# Altium footprint library SMD Resistors 0805.PcbLib: 63 footprints (part 1 of 4)
Each footprint in its own frame and in the unit in brackets; x right, y up, seen from the top. Pads: shape width x height; smd on the part's side, far side on the other; paste and mask are expansions set on the pad; w line width, h text height; cw(c..) or ccw(c..) is an arc to the next point about the centre after c.
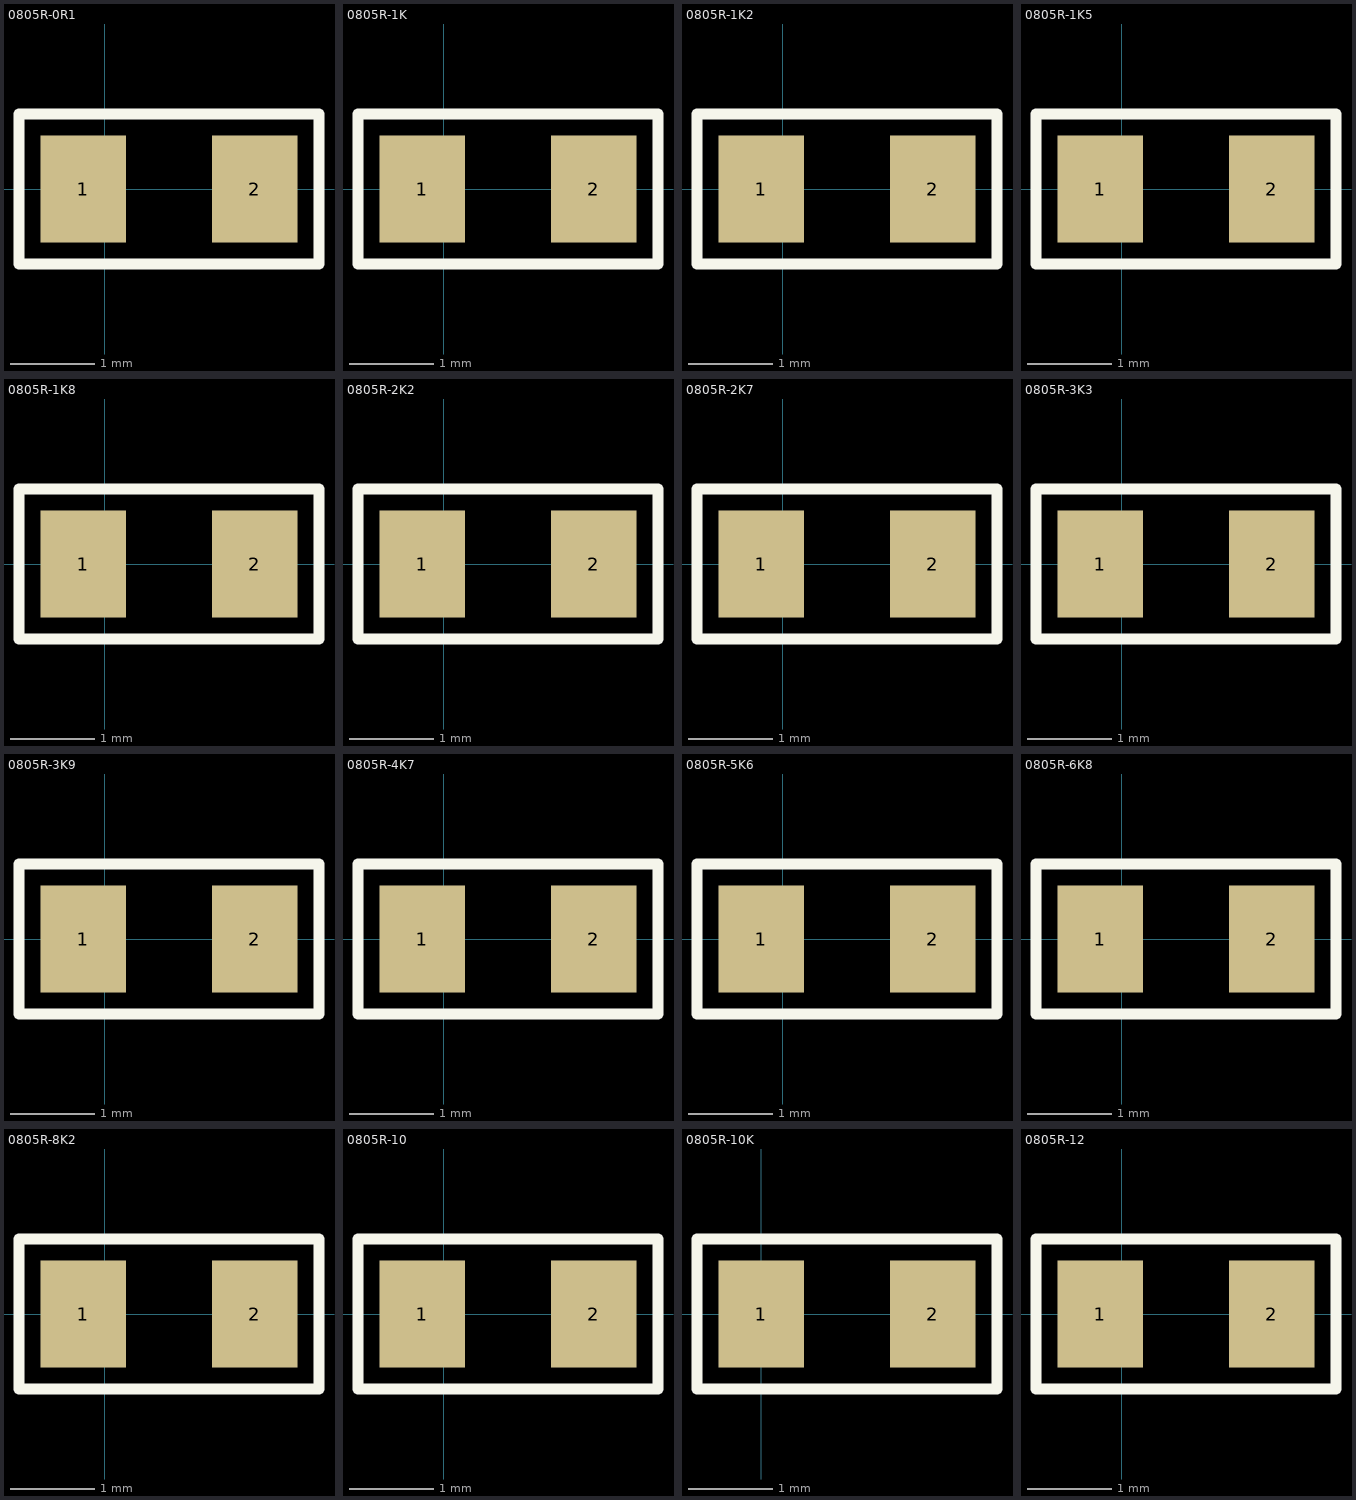
[diagram p0: the footprints below, top view; thin cyan lines are the x and y axes]

## 0805R-0R1 [mil] "RESISTOR 0805"
pads (2):
  rect 40x50 smd: 1(-10,0) 2(70,0)
Top Overlay:
  lines w5: -40,-35 100,-35 100,35 -40,35 -40,-35
3D body: height 27, standoff 26, extent 34.5,-7 42,8
3D body: height 27, standoff 26, extent 14.5,-7 22,8
3D body: height 26, standoff 0, extent 54,-25 70,25
3D body: height 26, standoff 25, extent 5,-22 54,22
3D body: height 26, standoff 0, extent -11,-25 5,25
3D body: height 25, standoff 0, extent -10,-24 69,24
3D body: height 27, standoff 26, extent 24.5,-7 32,8

## 0805R-1K [mil] "RESISTOR 0805"
pads (2):
  rect 40x50 smd: 1(-10,0) 2(70,0)
Top Overlay:
  lines w5: -40,-35 100,-35 100,35 -40,35 -40,-35
3D body: height 27, standoff 26, extent 15.5,-7.5 23,7.5
3D body: height 27, standoff 26, extent 25.5,-7.5 33,7.5
3D body: height 26, standoff 0, extent 54,-25 70,25
3D body: height 26, standoff 25, extent 5,-22 54,22
3D body: height 26, standoff 0, extent -11,-25 5,25
3D body: height 25, standoff 0, extent -10,-24 69,24
3D body: height 27, standoff 26, extent 35.5,-7.5 43,7.5

## 0805R-1K2 [mil] "RESISTOR 0805"
pads (2):
  rect 40x50 smd: 1(-10,0) 2(70,0)
Top Overlay:
  lines w5: -40,-35 100,-35 100,35 -40,35 -40,-35
3D body: height 27, standoff 26, extent 25.5,-7.5 33,7.5
3D body: height 26, standoff 0, extent 54,-25 70,25
3D body: height 26, standoff 25, extent 5,-22 54,22
3D body: height 26, standoff 0, extent -11,-25 5,25
3D body: height 25, standoff 0, extent -10,-24 69,24
3D body: height 27, standoff 26, extent 15.5,-7.5 23,7.5
3D body: height 27, standoff 26, extent 35.5,-7.5 43,7.5

## 0805R-1K5 [mil] "RESISTOR 0805"
pads (2):
  rect 40x50 smd: 1(-10,0) 2(70,0)
Top Overlay:
  lines w5: -40,-35 100,-35 100,35 -40,35 -40,-35
3D body: height 27, standoff 26, extent 15.5,-7.5 23,7.5
3D body: height 27, standoff 26, extent 25,-7.5 32.5,7.5
3D body: height 26, standoff 0, extent 54,-25 70,25
3D body: height 26, standoff 25, extent 5,-22 54,22
3D body: height 26, standoff 0, extent -11,-25 5,25
3D body: height 25, standoff 0, extent -10,-24 69,24
3D body: height 27, standoff 26, extent 35,-7.5 42.5,7.5

## 0805R-1K8 [mil] "RESISTOR 0805"
pads (2):
  rect 40x50 smd: 1(-10,0) 2(70,0)
Top Overlay:
  lines w5: -40,-35 -40,35 100,35 100,-35 -40,-35
3D body: height 27, standoff 26, extent 35.5,-7.5 43,7.5
3D body: height 25, standoff 0, extent -10,-24 69,24
3D body: height 26, standoff 0, extent -11,-25 5,25
3D body: height 26, standoff 25, extent 5,-22 54,22
3D body: height 26, standoff 0, extent 54,-25 70,25
3D body: height 27, standoff 26, extent 15.5,-7.5 23,7.5
3D body: height 27, standoff 26, extent 25.5,-7.5 33,7.5

## 0805R-2K2 [mil] "RESISTOR 0805"
pads (2):
  rect 40x50 smd: 1(-10,0) 2(70,0)
Top Overlay:
  lines w5: -40,-35 100,-35 100,35 -40,35 -40,-35
3D body: height 27, standoff 26, extent 35.5,-7.5 43,7.5
3D body: height 27, standoff 26, extent 25.5,-7.5 33,7.5
3D body: height 27, standoff 26, extent 15.5,-7.5 23,7.5
3D body: height 26, standoff 0, extent 54,-25 70,25
3D body: height 26, standoff 25, extent 5,-22 54,22
3D body: height 26, standoff 0, extent -11,-25 5,25
3D body: height 25, standoff 0, extent -10,-24 69,24

## 0805R-2K7 [mil] "RESISTOR 0805"
pads (2):
  rect 40x50 smd: 1(-10,0) 2(70,0)
Top Overlay:
  lines w5: -40,-35 -40,35 100,35 100,-35 -40,-35
3D body: height 25, standoff 0, extent -10,-24 69,24
3D body: height 26, standoff 0, extent -11,-25 5,25
3D body: height 26, standoff 25, extent 5,-22 54,22
3D body: height 26, standoff 0, extent 54,-25 70,25
3D body: height 27, standoff 26, extent 25.5,-7.5 33,7.5
3D body: height 27, standoff 26, extent 15.5,-7.5 23,7.5
3D body: height 27, standoff 26, extent 35.5,-7.5 43,7.5

## 0805R-3K3 [mil] "RESISTOR 0805"
pads (2):
  rect 40x50 smd: 1(-10,0) 2(70,0)
Top Overlay:
  lines w5: -40,-35 -40,35 100,35 100,-35 -40,-35
3D body: height 27, standoff 26, extent 35.5,-7.5 43,7.5
3D body: height 25, standoff 0, extent -10,-24 69,24
3D body: height 26, standoff 0, extent -11,-25 5,25
3D body: height 26, standoff 25, extent 5,-22 54,22
3D body: height 26, standoff 0, extent 54,-25 70,25
3D body: height 27, standoff 26, extent 25.5,-7.5 33,7.5
3D body: height 27, standoff 26, extent 15.5,-7.5 23,7.5

## 0805R-3K9 [mil] "RESISTOR 0805"
pads (2):
  rect 40x50 smd: 1(-10,0) 2(70,0)
Top Overlay:
  lines w5: -40,-35 100,-35 100,35 -40,35 -40,-35
3D body: height 27, standoff 26, extent 36,-7.5 43.5,7.5
3D body: height 26, standoff 0, extent 54,-25 70,25
3D body: height 26, standoff 25, extent 5,-22 54,22
3D body: height 26, standoff 0, extent -11,-25 5,25
3D body: height 25, standoff 0, extent -10,-24 69,24
3D body: height 27, standoff 26, extent 25.5,-7.5 33,7.5
3D body: height 27, standoff 26, extent 15.5,-7.5 23,7.5

## 0805R-4K7 [mil] "RESISTOR 0805"
pads (2):
  rect 40x50 smd: 1(-10,0) 2(70,0)
Top Overlay:
  lines w5: -40,-35 -40,35 100,35 100,-35 -40,-35
3D body: height 27, standoff 26, extent 35.5,-7.5 43,7.5
3D body: height 27, standoff 26, extent 15.5,-7.5 23,7.5
3D body: height 27, standoff 26, extent 25.5,-7.5 33,7.5
3D body: height 25, standoff 0, extent -10,-24 69,24
3D body: height 26, standoff 0, extent -11,-25 5,25
3D body: height 26, standoff 25, extent 5,-22 54,22
3D body: height 26, standoff 0, extent 54,-25 70,25

## 0805R-5K6 [mil] "RESISTOR 0805"
pads (2):
  rect 40x50 smd: 1(-10,0) 2(70,0)
Top Overlay:
  lines w5: -40,-35 100,-35 100,35 -40,35 -40,-35
3D body: height 26, standoff 0, extent 54,-25 70,25
3D body: height 26, standoff 25, extent 5,-22 54,22
3D body: height 26, standoff 0, extent -11,-25 5,25
3D body: height 25, standoff 0, extent -10,-24 69,24
3D body: height 27, standoff 26, extent 15.5,-7.5 23,7.5
3D body: height 27, standoff 26, extent 25.5,-7.5 33,7.5
3D body: height 27, standoff 26, extent 35.5,-7.5 43,7.5

## 0805R-6K8 [mil] "RESISTOR 0805"
pads (2):
  rect 40x50 smd: 1(-10,0) 2(70,0)
Top Overlay:
  lines w5: -40,-35 -40,35 100,35 100,-35 -40,-35
3D body: height 27, standoff 26, extent 35.5,-7.5 43,7.5
3D body: height 27, standoff 26, extent 25.5,-7.5 33,7.5
3D body: height 27, standoff 26, extent 15.5,-7.5 23,7.5
3D body: height 25, standoff 0, extent -10,-24 69,24
3D body: height 26, standoff 0, extent -11,-25 5,25
3D body: height 26, standoff 25, extent 5,-22 54,22
3D body: height 26, standoff 0, extent 54,-25 70,25

## 0805R-8K2 [mil] "RESISTOR 0805"
pads (2):
  rect 40x50 smd: 1(-10,0) 2(70,0)
Top Overlay:
  lines w5: -40,-35 -40,35 100,35 100,-35 -40,-35
3D body: height 27, standoff 26, extent 25.5,-7.5 33,7.5
3D body: height 27, standoff 26, extent 15.5,-7.5 23,7.5
3D body: height 25, standoff 0, extent -10,-24 69,24
3D body: height 26, standoff 0, extent -11,-25 5,25
3D body: height 26, standoff 25, extent 5,-22 54,22
3D body: height 26, standoff 0, extent 54,-25 70,25
3D body: height 27, standoff 26, extent 35.5,-7.5 43,7.5

## 0805R-10 [mil] "RESISTOR 0805"
pads (2):
  rect 40x50 smd: 1(-10,0) 2(70,0)
Top Overlay:
  lines w5: -40,-35 -40,35 100,35 100,-35 -40,-35
3D body: height 25, standoff 0, extent -10,-24 69,24
3D body: height 26, standoff 0, extent -11,-25 5,25
3D body: height 26, standoff 25, extent 5,-22 54,22
3D body: height 26, standoff 0, extent 54,-25 70,25
3D body: height 27, standoff 26, extent 25.5,-7.5 33,7.5
3D body: height 27, standoff 26, extent 15.5,-7.5 23,7.5
3D body: height 27, standoff 26, extent 35.5,-7.5 43,7.5

## 0805R-10K [mil] "RESISTOR 0805"
pads (2):
  rect 40x50 smd: 1(0,0) 2(80,0)
Top Overlay:
  lines w5: -30,-35 110,-35 110,35 -30,35 -30,-35
3D body: height 27, standoff 26, extent 45.5,-7.5 53,7.5
3D body: height 27, standoff 26, extent 25.5,-7.5 33,7.5
3D body: height 27, standoff 26, extent 35.5,-7.5 43,7.5
3D body: height 26, standoff 0, extent 64,-25 80,25
3D body: height 26, standoff 25, extent 15,-22 64,22
3D body: height 26, standoff 0, extent -1,-25 15,25
3D body: height 25, standoff 0, extent 0,-24 79,24

## 0805R-12 [mil] "RESISTOR 0805"
pads (2):
  rect 40x50 smd: 1(-10,0) 2(70,0)
Top Overlay:
  lines w5: -40,-35 -40,35 100,35 100,-35 -40,-35
3D body: height 27, standoff 26, extent 35.5,-7.5 43,7.5
3D body: height 27, standoff 26, extent 15.5,-7.5 23,7.5
3D body: height 25, standoff 0, extent -10,-24 69,24
3D body: height 26, standoff 0, extent -11,-25 5,25
3D body: height 26, standoff 25, extent 5,-22 54,22
3D body: height 26, standoff 0, extent 54,-25 70,25
3D body: height 27, standoff 26, extent 25.5,-7.5 33,7.5